# Altium footprint library PCB - CONNECTOR - MISC - CNC TECH 2000-1-2-41-00-BK.PCBLIB: 1 footprints
Each footprint in its own frame and in the unit in brackets; x right, y up, seen from the top. Pads: shape width x height; smd on the part's side, far side on the other; paste and mask are expansions set on the pad; w line width, h text height; cw(c..) or ccw(c..) is an arc to the next point about the centre after c.
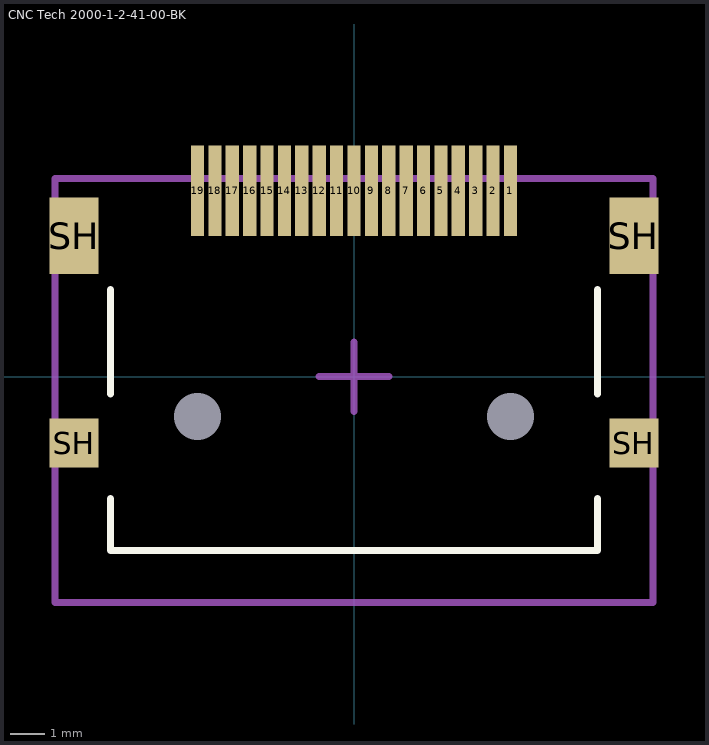
[diagram p0: the footprint, top view; thin cyan lines are the x and y axes]

## CNC Tech 2000-1-2-41-00-BK [mm]
height 4.55
pads (25):
  rect 0.38x2.6 smd mask+0.1: 1(4.5,5.35) 2(4,5.35) 3(3.5,5.35) 4(3,5.35) 5(2.5,5.35) 6(2,5.35) 7(1.5,5.35) 8(1,5.35) 9(0.5,5.35) 10(0,5.35) 11(-0.5,5.35) 12(-1,5.35) 13(-1.5,5.35) 14(-2,5.35) 15(-2.5,5.35) 16(-3,5.35) 17(-3.5,5.35) 18(-4,5.35) 19(-4.5,5.35)
  rect 1.4x1.4 smd mask+0.1: SH(-8.05,-1.91) SH(8.05,-1.91)
  rect 1.4x2.2 smd mask+0.1: SH(-8.05,4.05) SH(8.05,4.05)
  round 0 hole 1.35 unplated mask+0.1: SH(-4.5,-1.15) SH(4.5,-1.15)
Top Overlay:
  lines w0.2: -7,-3.5 -7,-5 7,-5 7,-3.5 ; -7,-0.5 -7,2.5 ; 7,-0.5 7,2.5
Mechanical 1:
  lines w0.2: -8.6,-6.5 -8.6,5.7 8.6,5.7 8.6,-6.5 -8.6,-6.5
Mechanical 15:
  lines w0.2: -1,0 1,0 ; 0,-1 0,1
3D body "CNC Tech - 2000-1-2-41-00-BK.stp": height 6.17, standoff -1.54, extent -8.611,-6.5 8.611,5.7